# Altium schematic symbol library jlcpcb_2025_04_ferrites_extended_0402.schlib: 536 symbols (part 1 of 10)
Pins are listed as number, name and electrical type; pins without a type are passive.

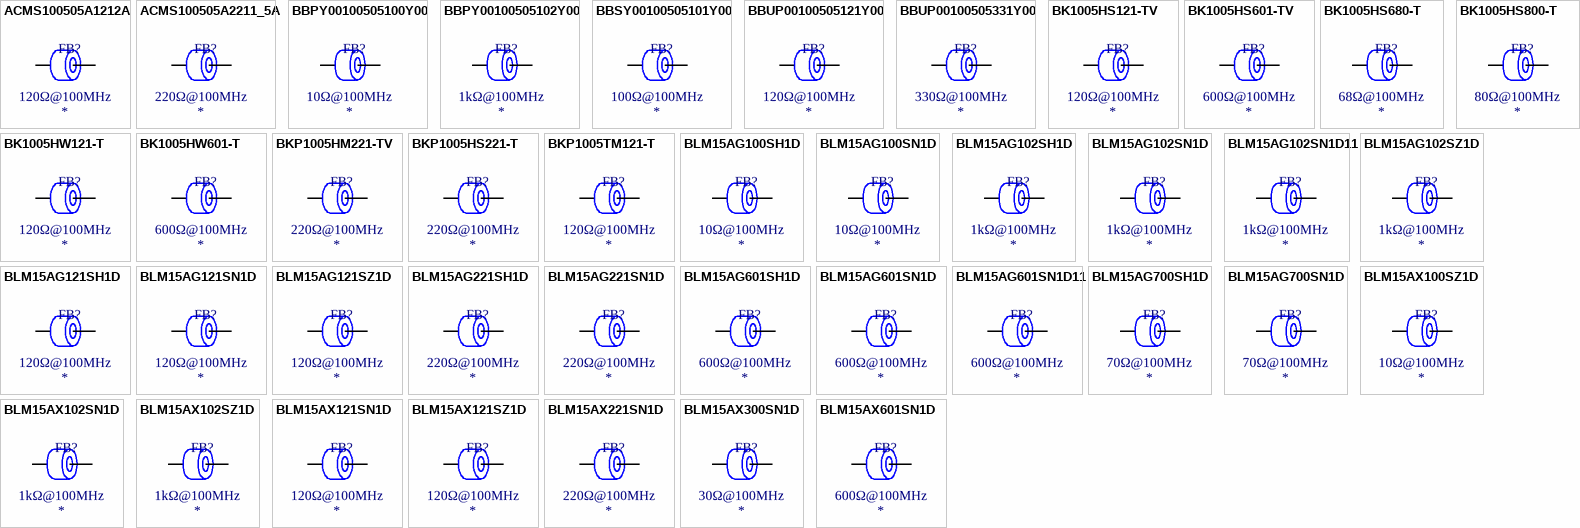
[diagram p0: symbols ACMS100505A1212A to BLM15AX601SN1D]

## ACMS100505A1212A
designator FB?  Impedance @ Frequency: 120Ω@100MHz
Ferrite, 120Ω@100MHz, ±25%, 95mΩ, 2A, SMD 0402; Manufacturer: HYHONGYEX; Manufacturer Part Number: ACMS100505A1212A; Package Size: 0402; JLCPCB Basic Part: No; JLCPCB Part Number: C963857; Supplier 1: LCSC; Category: Ferrite Beads; Supplier Part Number 1: C963857; Tolerance: ±25%; Rated Current: 2A; DC Resistance: 95mΩ; RoHS: Yes; ComponentLink1Description: Datasheet; ComponentLink1URL: https://wmsc.lcsc.com/wmsc/upload/file/pdf/v2/lcsc/2201131330_HYHONGYEX-ACMS100505A1212A_C963857.pdf; ComponentLink2Description: JLCPCB Part URL; ComponentLink2URL: https://jlcpcb.com/partdetail/C963857; ComponentLink3Description: LCSC Part URL; ComponentLink3URL: https://lcsc.com/product-detail/Ferrite-Beads_HYHONGYEX-HYHONGYEX-ACMS100505A1212A_C963857.html
footprint FB-0402 (0402 (1005M) Ferrite)
pins: 1, 2

## ACMS100505A2211_5A
designator FB?  Impedance @ Frequency: 220Ω@100MHz
Ferrite, 220Ω@100MHz, ±25%, 150mΩ, 1.5A, SMD 0402; Manufacturer: HYHONGYEX; Manufacturer Part Number: ACMS100505A2211.5A; Package Size: 0402; JLCPCB Basic Part: No; JLCPCB Part Number: C963859; Supplier 1: LCSC; Category: Ferrite Beads; Supplier Part Number 1: C963859; Tolerance: ±25%; Rated Current: 1.5A; DC Resistance: 150mΩ; RoHS: Yes; ComponentLink1Description: Datasheet; ComponentLink1URL: https://wmsc.lcsc.com/wmsc/upload/file/pdf/v2/lcsc/2012171840_HYHONGYEX-ACMS100505A2211-5A_C963859.pdf; ComponentLink2Description: JLCPCB Part URL; ComponentLink2URL: https://jlcpcb.com/partdetail/C963859; ComponentLink3Description: LCSC Part URL; ComponentLink3URL: https://lcsc.com/product-detail/Ferrite-Beads_HYHONGYEX-HYHONGYEX-ACMS100505A2211.5A_C963859.html
footprint FB-0402 (0402 (1005M) Ferrite)
pins: 1, 2

## BBPY00100505100Y00
designator FB?  Impedance @ Frequency: 10Ω@100MHz
Ferrite, 10Ω@100MHz, 30mΩ, SMD 0402; Manufacturer: Chilisin Elec; Manufacturer Part Number: BBPY00100505100Y00; Package Size: 0402; JLCPCB Basic Part: No; JLCPCB Part Number: C3716694; Supplier 1: LCSC; Category: Ferrite Beads; Supplier Part Number 1: C3716694; DC Resistance: 30mΩ; RoHS: Yes; ComponentLink1Description: Datasheet; ComponentLink1URL: https://wmsc.lcsc.com/wmsc/upload/file/pdf/v2/lcsc/2401161240_Chilisin-Elec-BBPY00100505100Y00_C3716694.pdf; ComponentLink2Description: JLCPCB Part URL; ComponentLink2URL: https://jlcpcb.com/partdetail/C3716694; ComponentLink3Description: LCSC Part URL; ComponentLink3URL: https://lcsc.com/product-detail/Ferrite-Beads_Chilisin-Elec-Chilisin-Elec-BBPY00100505100Y00_C3716694.html
pins: 1, 2

## BBPY00100505102Y00
designator FB?  Impedance @ Frequency: 1kΩ@100MHz
Ferrite, 1kΩ@100MHz, ±25%, 490mΩ, 500mA, SMD 0402; Manufacturer: Chilisin Elec; Manufacturer Part Number: BBPY00100505102Y00; Package Size: 0402; JLCPCB Basic Part: No; JLCPCB Part Number: C2935062; Supplier 1: LCSC; Category: Ferrite Beads; Supplier Part Number 1: C2935062; Tolerance: ±25%; Rated Current: 500mA; DC Resistance: 490mΩ; RoHS: Yes; ComponentLink1Description: Datasheet; ComponentLink1URL: https://wmsc.lcsc.com/wmsc/upload/file/pdf/v2/lcsc/2204181745_Chilisin-Elec-BBPY00100505102Y00_C2935062.pdf; ComponentLink2Description: JLCPCB Part URL; ComponentLink2URL: https://jlcpcb.com/partdetail/C2935062; ComponentLink3Description: LCSC Part URL; ComponentLink3URL: https://lcsc.com/product-detail/Ferrite-Beads_Chilisin-Elec-Chilisin-Elec-BBPY00100505102Y00_C2935062.html
footprint FB-0402 (0402 (1005M) Ferrite)
pins: 1, 2

## BBSY00100505101Y00
designator FB?  Impedance @ Frequency: 100Ω@100MHz
Ferrite, 100Ω@100MHz, ±25%, 250mΩ, 500mA, SMD 0402; Manufacturer: Chilisin Elec; Manufacturer Part Number: BBSY00100505101Y00; Package Size: 0402; JLCPCB Basic Part: No; JLCPCB Part Number: C910028; Supplier 1: LCSC; Category: Ferrite Beads; Supplier Part Number 1: C910028; Tolerance: ±25%; Rated Current: 500mA; DC Resistance: 250mΩ; RoHS: Yes; ComponentLink1Description: Datasheet; ComponentLink1URL: https://wmsc.lcsc.com/wmsc/upload/file/pdf/v2/lcsc/2010311706_Chilisin-Elec-BBSY00100505101Y00_C910028.pdf; ComponentLink2Description: JLCPCB Part URL; ComponentLink2URL: https://jlcpcb.com/partdetail/C910028; ComponentLink3Description: LCSC Part URL; ComponentLink3URL: https://lcsc.com/product-detail/Ferrite-Beads_Chilisin-Elec-Chilisin-Elec-BBSY00100505101Y00_C910028.html
footprint FB-0402 (0402 (1005M) Ferrite)
pins: 1, 2

## BBUP00100505121Y00
designator FB?  Impedance @ Frequency: 120Ω@100MHz
Ferrite, 120Ω@100MHz, ±25%, 55mΩ, 2A, SMD 0402; Manufacturer: Chilisin Elec; Manufacturer Part Number: BBUP00100505121Y00; Package Size: 0402; JLCPCB Basic Part: No; JLCPCB Part Number: C2981198; Supplier 1: LCSC; Category: Ferrite Beads; Supplier Part Number 1: C2981198; Tolerance: ±25%; Rated Current: 2A; DC Resistance: 55mΩ; RoHS: Yes; ComponentLink1Description: Datasheet; ComponentLink1URL: https://wmsc.lcsc.com/wmsc/upload/file/pdf/v2/lcsc/2203101903_Chilisin-Elec-BBUP00100505121Y00_C2981198.pdf; ComponentLink2Description: JLCPCB Part URL; ComponentLink2URL: https://jlcpcb.com/partdetail/C2981198; ComponentLink3Description: LCSC Part URL; ComponentLink3URL: https://lcsc.com/product-detail/Ferrite-Beads_Chilisin-Elec-Chilisin-Elec-BBUP00100505121Y00_C2981198.html
footprint FB-0402 (0402 (1005M) Ferrite)
pins: 1, 2

## BBUP00100505331Y00
designator FB?  Impedance @ Frequency: 330Ω@100MHz
Ferrite, 330Ω@100MHz, 150mΩ, SMD 0402; Manufacturer: Chilisin Elec; Manufacturer Part Number: BBUP00100505331Y00; Package Size: 0402; JLCPCB Basic Part: No; JLCPCB Part Number: C3018868; Supplier 1: LCSC; Category: Ferrite Beads; Supplier Part Number 1: C3018868; DC Resistance: 150mΩ; RoHS: Yes; ComponentLink1Description: Datasheet; ComponentLink1URL: https://wmsc.lcsc.com/wmsc/upload/file/pdf/v2/lcsc/2205261600_Chilisin-Elec-BBUP00100505331Y00_C3018868.pdf; ComponentLink2Description: JLCPCB Part URL; ComponentLink2URL: https://jlcpcb.com/partdetail/C3018868; ComponentLink3Description: LCSC Part URL; ComponentLink3URL: https://lcsc.com/product-detail/Ferrite-Beads_Chilisin-Elec-Chilisin-Elec-BBUP00100505331Y00_C3018868.html
pins: 1, 2

## BK1005HS121-TV
designator FB?  Impedance @ Frequency: 120Ω@100MHz
Ferrite, 120Ω@100MHz, ±25%, 200mΩ, 500mA, SMD 0402; Manufacturer: Taiyo Yuden; Manufacturer Part Number: BK1005HS121-TV; Package Size: 0402; JLCPCB Basic Part: No; JLCPCB Part Number: C2661625; Supplier 1: LCSC; Category: Ferrite Beads; Supplier Part Number 1: C2661625; Tolerance: ±25%; Rated Current: 500mA; DC Resistance: 200mΩ; RoHS: Yes; ComponentLink1Description: Datasheet; ComponentLink1URL: https://wmsc.lcsc.com/wmsc/upload/file/pdf/v2/lcsc/2211281900_Taiyo-Yuden-BK1005HS121-TV_C2661625.pdf; ComponentLink2Description: JLCPCB Part URL; ComponentLink2URL: https://jlcpcb.com/partdetail/C2661625; ComponentLink3Description: LCSC Part URL; ComponentLink3URL: https://lcsc.com/product-detail/Ferrite-Beads_Taiyo-Yuden-Taiyo-Yuden-BK1005HS121-TV_C2661625.html
footprint FB-0402 (0402 (1005M) Ferrite)
pins: 1, 2

## BK1005HS601-TV
designator FB?  Impedance @ Frequency: 600Ω@100MHz
Ferrite, 600Ω@100MHz, ±25%, 550mΩ, 300mA, SMD 0402; Manufacturer: Taiyo Yuden; Manufacturer Part Number: BK1005HS601-TV; Package Size: 0402; JLCPCB Basic Part: No; JLCPCB Part Number: C515358; Supplier 1: LCSC; Category: Ferrite Beads; Supplier Part Number 1: C515358; Tolerance: ±25%; Rated Current: 300mA; DC Resistance: 550mΩ; RoHS: Yes; ComponentLink1Description: Datasheet; ComponentLink1URL: https://wmsc.lcsc.com/wmsc/upload/file/pdf/v2/lcsc/2008042202_Taiyo-Yuden-BK1005HS601-TV_C515358.pdf; ComponentLink2Description: JLCPCB Part URL; ComponentLink2URL: https://jlcpcb.com/partdetail/C515358; ComponentLink3Description: LCSC Part URL; ComponentLink3URL: https://lcsc.com/product-detail/Ferrite-Beads_Taiyo-Yuden-Taiyo-Yuden-BK1005HS601-TV_C515358.html
footprint FB-0402 (0402 (1005M) Ferrite)
pins: 1, 2

## BK1005HS680-T
designator FB?  Impedance @ Frequency: 68Ω@100MHz
Ferrite, 68Ω@100MHz, ±25%, 100mΩ, 700mA, SMD 0402; Manufacturer: Taiyo Yuden; Manufacturer Part Number: BK1005HS680-T; Package Size: 0402; JLCPCB Basic Part: No; JLCPCB Part Number: C524934; Supplier 1: LCSC; Category: Ferrite Beads; Supplier Part Number 1: C524934; Tolerance: ±25%; Rated Current: 700mA; DC Resistance: 100mΩ; RoHS: Yes; ComponentLink1Description: Datasheet; ComponentLink1URL: https://wmsc.lcsc.com/wmsc/upload/file/pdf/v2/lcsc/2211282200_Taiyo-Yuden-BK1005HS680-T_C524934.pdf; ComponentLink2Description: JLCPCB Part URL; ComponentLink2URL: https://jlcpcb.com/partdetail/C524934; ComponentLink3Description: LCSC Part URL; ComponentLink3URL: https://lcsc.com/product-detail/Ferrite-Beads_Taiyo-Yuden-Taiyo-Yuden-BK1005HS680-T_C524934.html
footprint FB-0402 (0402 (1005M) Ferrite)
pins: 1, 2

## BK1005HS800-T
designator FB?  Impedance @ Frequency: 80Ω@100MHz
Ferrite, 80Ω@100MHz, ±25%, 100mΩ, 700mA, SMD 0402; Manufacturer: Taiyo Yuden; Manufacturer Part Number: BK1005HS800-T; Package Size: 0402; JLCPCB Basic Part: No; JLCPCB Part Number: C524935; Supplier 1: LCSC; Category: Ferrite Beads; Supplier Part Number 1: C524935; Tolerance: ±25%; Rated Current: 700mA; DC Resistance: 100mΩ; RoHS: Yes; ComponentLink1Description: Datasheet; ComponentLink1URL: https://wmsc.lcsc.com/wmsc/upload/file/pdf/v2/lcsc/2211282200_Taiyo-Yuden-BK1005HS800-T_C524935.pdf; ComponentLink2Description: JLCPCB Part URL; ComponentLink2URL: https://jlcpcb.com/partdetail/C524935; ComponentLink3Description: LCSC Part URL; ComponentLink3URL: https://lcsc.com/product-detail/Ferrite-Beads_Taiyo-Yuden-Taiyo-Yuden-BK1005HS800-T_C524935.html
footprint FB-0402 (0402 (1005M) Ferrite)
pins: 1, 2

## BK1005HW121-T
designator FB?  Impedance @ Frequency: 120Ω@100MHz
Ferrite, 120Ω@100MHz, ±25%, 240mΩ, 450mA, SMD 0402; Manufacturer: Taiyo Yuden; Manufacturer Part Number: BK1005HW121-T; Package Size: 0402; JLCPCB Basic Part: No; JLCPCB Part Number: C524936; Supplier 1: LCSC; Category: Ferrite Beads; Supplier Part Number 1: C524936; Tolerance: ±25%; Rated Current: 450mA; DC Resistance: 240mΩ; RoHS: Yes; ComponentLink1Description: Datasheet; ComponentLink1URL: https://wmsc.lcsc.com/wmsc/upload/file/pdf/v2/lcsc/2211282200_Taiyo-Yuden-BK1005HW121-T_C524936.pdf; ComponentLink2Description: JLCPCB Part URL; ComponentLink2URL: https://jlcpcb.com/partdetail/C524936; ComponentLink3Description: LCSC Part URL; ComponentLink3URL: https://lcsc.com/product-detail/Ferrite-Beads_Taiyo-Yuden-Taiyo-Yuden-BK1005HW121-T_C524936.html
footprint FB-0402 (0402 (1005M) Ferrite)
pins: 1, 2

## BK1005HW601-T
designator FB?  Impedance @ Frequency: 600Ω@100MHz
Ferrite, 600Ω@100MHz, ±25%, 600mΩ, 300mA, SMD 0402; Manufacturer: Taiyo Yuden; Manufacturer Part Number: BK1005HW601-T; Package Size: 0402; JLCPCB Basic Part: No; JLCPCB Part Number: C92864; Supplier 1: LCSC; Category: Ferrite Beads; Supplier Part Number 1: C92864; Tolerance: ±25%; Rated Current: 300mA; DC Resistance: 600mΩ; RoHS: Yes; ComponentLink1Description: Datasheet; ComponentLink1URL: https://wmsc.lcsc.com/wmsc/upload/file/pdf/v2/lcsc/1810171713_Taiyo-Yuden-BK1005HW601-T_C92864.pdf; ComponentLink2Description: JLCPCB Part URL; ComponentLink2URL: https://jlcpcb.com/partdetail/C92864; ComponentLink3Description: LCSC Part URL; ComponentLink3URL: https://lcsc.com/product-detail/Ferrite-Beads_Taiyo-Yuden-Taiyo-Yuden-BK1005HW601-T_C92864.html
footprint FB-0402 (0402 (1005M) Ferrite)
pins: 1, 2

## BKP1005HM221-TV
designator FB?  Impedance @ Frequency: 220Ω@100MHz
Ferrite, 220Ω@100MHz, ±25%, 180mΩ, 900mA, SMD 0402; Manufacturer: Taiyo Yuden; Manufacturer Part Number: BKP1005HM221-TV; Package Size: 0402; JLCPCB Basic Part: No; JLCPCB Part Number: C515359; Supplier 1: LCSC; Category: Ferrite Beads; Supplier Part Number 1: C515359; Tolerance: ±25%; Rated Current: 900mA; DC Resistance: 180mΩ; RoHS: Yes; ComponentLink1Description: Datasheet; ComponentLink1URL: https://wmsc.lcsc.com/wmsc/upload/file/pdf/v2/lcsc/2008042203_Taiyo-Yuden-BKP1005HM221-TV_C515359.pdf; ComponentLink2Description: JLCPCB Part URL; ComponentLink2URL: https://jlcpcb.com/partdetail/C515359; ComponentLink3Description: LCSC Part URL; ComponentLink3URL: https://lcsc.com/product-detail/Ferrite-Beads_Taiyo-Yuden-Taiyo-Yuden-BKP1005HM221-TV_C515359.html
footprint FB-0402 (0402 (1005M) Ferrite)
pins: 1, 2

## BKP1005HS221-T
designator FB?  Impedance @ Frequency: 220Ω@100MHz
Ferrite, 220Ω@100MHz, ±25%, 200mΩ, 800mA, SMD 0402; Manufacturer: Taiyo Yuden; Manufacturer Part Number: BKP1005HS221-T; Package Size: 0402; JLCPCB Basic Part: No; JLCPCB Part Number: C92877; Supplier 1: LCSC; Category: Ferrite Beads; Supplier Part Number 1: C92877; Tolerance: ±25%; Rated Current: 800mA; DC Resistance: 200mΩ; RoHS: Yes; ComponentLink1Description: Datasheet; ComponentLink1URL: https://wmsc.lcsc.com/wmsc/upload/file/pdf/v2/lcsc/1810171713_Taiyo-Yuden-BKP1005HS221-T_C92877.pdf; ComponentLink2Description: JLCPCB Part URL; ComponentLink2URL: https://jlcpcb.com/partdetail/C92877; ComponentLink3Description: LCSC Part URL; ComponentLink3URL: https://lcsc.com/product-detail/Ferrite-Beads_Taiyo-Yuden-Taiyo-Yuden-BKP1005HS221-T_C92877.html
footprint FB-0402 (0402 (1005M) Ferrite)
pins: 1, 2

## BKP1005TM121-T
designator FB?  Impedance @ Frequency: 120Ω@100MHz
Ferrite, 120Ω@100MHz, ±25%, 100mΩ, 1.3A, SMD 0402; Manufacturer: Taiyo Yuden; Manufacturer Part Number: BKP1005TM121-T; Package Size: 0402; JLCPCB Basic Part: No; JLCPCB Part Number: C524939; Supplier 1: LCSC; Category: Ferrite Beads; Supplier Part Number 1: C524939; Tolerance: ±25%; Rated Current: 1.3A; DC Resistance: 100mΩ; RoHS: Yes; ComponentLink1Description: Datasheet; ComponentLink1URL: https://wmsc.lcsc.com/wmsc/upload/file/pdf/v2/lcsc/2006241834_Taiyo-Yuden-BKP1005TM121-T_C524939.pdf; ComponentLink2Description: JLCPCB Part URL; ComponentLink2URL: https://jlcpcb.com/partdetail/C524939; ComponentLink3Description: LCSC Part URL; ComponentLink3URL: https://lcsc.com/product-detail/Ferrite-Beads_Taiyo-Yuden-Taiyo-Yuden-BKP1005TM121-T_C524939.html
footprint FB-0402 (0402 (1005M) Ferrite)
pins: 1, 2

## BLM15AG100SH1D
designator FB?  Impedance @ Frequency: 10Ω@100MHz
Ferrite, 10Ω@100MHz, 50mΩ, 1A, SMD 0402; Manufacturer: Murata Electronics; Manufacturer Part Number: BLM15AG100SH1D; Package Size: 0402; JLCPCB Basic Part: No; JLCPCB Part Number: C701272; Supplier 1: LCSC; Category: Ferrite Beads; Supplier Part Number 1: C701272; Rated Current: 1A; DC Resistance: 50mΩ; RoHS: Yes; ComponentLink1Description: Datasheet; ComponentLink1URL: https://wmsc.lcsc.com/wmsc/upload/file/pdf/v2/lcsc/2009241508_Murata-Electronics-BLM15AG100SH1D_C701272.pdf; ComponentLink2Description: JLCPCB Part URL; ComponentLink2URL: https://jlcpcb.com/partdetail/C701272; ComponentLink3Description: LCSC Part URL; ComponentLink3URL: https://lcsc.com/product-detail/Ferrite-Beads_Murata-Electronics-Murata-Electronics-BLM15AG100SH1D_C701272.html
pins: 1, 2

## BLM15AG100SN1D
designator FB?  Impedance @ Frequency: 10Ω@100MHz
Ferrite, 10Ω@100MHz, 25mΩ, 1A, SMD 0402; Manufacturer: Murata Electronics; Manufacturer Part Number: BLM15AG100SN1D; Package Size: 0402; JLCPCB Basic Part: No; JLCPCB Part Number: C76882; Supplier 1: LCSC; Category: Ferrite Beads; Supplier Part Number 1: C76882; Rated Current: 1A; DC Resistance: 25mΩ; RoHS: Yes; ComponentLink1Description: Datasheet; ComponentLink1URL: https://wmsc.lcsc.com/wmsc/upload/file/pdf/v2/lcsc/2304140030_Murata-Electronics-BLM15AG100SN1D_C76882.pdf; ComponentLink2Description: JLCPCB Part URL; ComponentLink2URL: https://jlcpcb.com/partdetail/C76882; ComponentLink3Description: LCSC Part URL; ComponentLink3URL: https://lcsc.com/product-detail/Ferrite-Beads_Murata-Electronics-Murata-Electronics-BLM15AG100SN1D_C76882.html
pins: 1, 2

## BLM15AG102SH1D
designator FB?  Impedance @ Frequency: 1kΩ@100MHz
Ferrite, 1kΩ@100MHz, ±25%, 1Ω, 200mA, SMD 0402; Manufacturer: Murata Electronics; Manufacturer Part Number: BLM15AG102SH1D; Package Size: 0402; JLCPCB Basic Part: No; JLCPCB Part Number: C160967; Supplier 1: LCSC; Category: Ferrite Beads; Supplier Part Number 1: C160967; Tolerance: ±25%; Rated Current: 200mA; DC Resistance: 1Ω; RoHS: Yes; ComponentLink1Description: Datasheet; ComponentLink1URL: https://wmsc.lcsc.com/wmsc/upload/file/pdf/v2/lcsc/1811081514_Murata-Electronics-BLM15AG102SH1D_C160967.pdf; ComponentLink2Description: JLCPCB Part URL; ComponentLink2URL: https://jlcpcb.com/partdetail/C160967; ComponentLink3Description: LCSC Part URL; ComponentLink3URL: https://lcsc.com/product-detail/Ferrite-Beads_Murata-Electronics-Murata-Electronics-BLM15AG102SH1D_C160967.html
footprint FB-0402 (0402 (1005M) Ferrite)
pins: 1, 2

## BLM15AG102SN1D
designator FB?  Impedance @ Frequency: 1kΩ@100MHz
Ferrite, 1kΩ@100MHz, ±25%, 650mΩ, 300mA, SMD 0402; Manufacturer: Murata Electronics; Manufacturer Part Number: BLM15AG102SN1D; Package Size: 0402; JLCPCB Basic Part: No; JLCPCB Part Number: C76883; Supplier 1: LCSC; Category: Ferrite Beads; Supplier Part Number 1: C76883; Tolerance: ±25%; Rated Current: 300mA; DC Resistance: 650mΩ; RoHS: Yes; ComponentLink1Description: Datasheet; ComponentLink1URL: https://wmsc.lcsc.com/wmsc/upload/file/pdf/v2/lcsc/2304140030_Murata-Electronics-BLM15AG102SN1D_C76883.pdf; ComponentLink2Description: JLCPCB Part URL; ComponentLink2URL: https://jlcpcb.com/partdetail/C76883; ComponentLink3Description: LCSC Part URL; ComponentLink3URL: https://lcsc.com/product-detail/Ferrite-Beads_Murata-Electronics-Murata-Electronics-BLM15AG102SN1D_C76883.html
footprint FB-0402 (0402 (1005M) Ferrite)
pins: 1, 2

## BLM15AG102SN1D11
designator FB?  Impedance @ Frequency: 1kΩ@100MHz
Ferrite, 1kΩ@100MHz, ±25%, 650mΩ, 300mA, SMD 0402; Manufacturer: Murata Electronics; Manufacturer Part Number: BLM15AG102SN1D11; Package Size: 0402; JLCPCB Basic Part: No; JLCPCB Part Number: C882959; Supplier 1: LCSC; Category: Ferrite Beads; Supplier Part Number 1: C882959; Tolerance: ±25%; Rated Current: 300mA; DC Resistance: 650mΩ; RoHS: Yes; ComponentLink1Description: Datasheet; ComponentLink1URL: https://wmsc.lcsc.com/wmsc/upload/file/pdf/v2/lcsc/2011231238_Murata-Electronics-BLM15AG102SN1D11_C882959.pdf; ComponentLink2Description: JLCPCB Part URL; ComponentLink2URL: https://jlcpcb.com/partdetail/C882959; ComponentLink3Description: LCSC Part URL; ComponentLink3URL: https://lcsc.com/product-detail/Ferrite-Beads_Murata-Electronics-Murata-Electronics-BLM15AG102SN1D11_C882959.html
footprint FB-0402 (0402 (1005M) Ferrite)
pins: 1, 2

## BLM15AG102SZ1D
designator FB?  Impedance @ Frequency: 1kΩ@100MHz
Ferrite, 1kΩ@100MHz, ±25%, 650mΩ, 300mA, SMD 0402; Manufacturer: Murata Electronics; Manufacturer Part Number: BLM15AG102SZ1D; Package Size: 0402; JLCPCB Basic Part: No; JLCPCB Part Number: C710326; Supplier 1: LCSC; Category: Ferrite Beads; Supplier Part Number 1: C710326; Tolerance: ±25%; Rated Current: 300mA; DC Resistance: 650mΩ; RoHS: Yes; ComponentLink1Description: Datasheet; ComponentLink1URL: https://wmsc.lcsc.com/wmsc/upload/file/pdf/v2/lcsc/2304140030_Murata-Electronics-BLM15AG102SZ1D_C710326.pdf; ComponentLink2Description: JLCPCB Part URL; ComponentLink2URL: https://jlcpcb.com/partdetail/C710326; ComponentLink3Description: LCSC Part URL; ComponentLink3URL: https://lcsc.com/product-detail/Ferrite-Beads_Murata-Electronics-Murata-Electronics-BLM15AG102SZ1D_C710326.html
footprint FB-0402 (0402 (1005M) Ferrite)
pins: 1, 2

## BLM15AG121SH1D
designator FB?  Impedance @ Frequency: 120Ω@100MHz
Ferrite, 120Ω@100MHz, ±25%, 250mΩ, 500mA, SMD 0402; Manufacturer: Murata Electronics; Manufacturer Part Number: BLM15AG121SH1D; Package Size: 0402; JLCPCB Basic Part: No; JLCPCB Part Number: C91573; Supplier 1: LCSC; Category: Ferrite Beads; Supplier Part Number 1: C91573; Tolerance: ±25%; Rated Current: 500mA; DC Resistance: 250mΩ; RoHS: Yes; ComponentLink1Description: Datasheet; ComponentLink1URL: https://wmsc.lcsc.com/wmsc/upload/file/pdf/v2/lcsc/1810232207_Murata-Electronics-BLM15AG121SH1D_C91573.pdf; ComponentLink2Description: JLCPCB Part URL; ComponentLink2URL: https://jlcpcb.com/partdetail/C91573; ComponentLink3Description: LCSC Part URL; ComponentLink3URL: https://lcsc.com/product-detail/Ferrite-Beads_Murata-Electronics-Murata-Electronics-BLM15AG121SH1D_C91573.html
footprint FB-0402 (0402 (1005M) Ferrite)
pins: 1, 2

## BLM15AG121SN1D
designator FB?  Impedance @ Frequency: 120Ω@100MHz
Ferrite, 120Ω@100MHz, ±25%, 250mΩ, 500mA, SMD 0402; Manufacturer: Murata Electronics; Manufacturer Part Number: BLM15AG121SN1D; Package Size: 0402; JLCPCB Basic Part: No; JLCPCB Part Number: C85812; Supplier 1: LCSC; Category: Ferrite Beads; Supplier Part Number 1: C85812; Tolerance: ±25%; Rated Current: 500mA; DC Resistance: 250mΩ; RoHS: Yes; ComponentLink1Description: Datasheet; ComponentLink1URL: https://wmsc.lcsc.com/wmsc/upload/file/pdf/v2/lcsc/2304140030_Murata-Electronics-BLM15AG121SN1D_C85812.pdf; ComponentLink2Description: JLCPCB Part URL; ComponentLink2URL: https://jlcpcb.com/partdetail/C85812; ComponentLink3Description: LCSC Part URL; ComponentLink3URL: https://lcsc.com/product-detail/Ferrite-Beads_Murata-Electronics-Murata-Electronics-BLM15AG121SN1D_C85812.html
footprint FB-0402 (0402 (1005M) Ferrite)
pins: 1, 2

## BLM15AG121SZ1D
designator FB?  Impedance @ Frequency: 120Ω@100MHz
Ferrite, 120Ω@100MHz, ±25%, 190mΩ, 500mA, SMD 0402; Manufacturer: Murata Electronics; Manufacturer Part Number: BLM15AG121SZ1D; Package Size: 0402; JLCPCB Basic Part: No; JLCPCB Part Number: C2661926; Supplier 1: LCSC; Category: Ferrite Beads; Supplier Part Number 1: C2661926; Tolerance: ±25%; Rated Current: 500mA; DC Resistance: 190mΩ; RoHS: Yes; ComponentLink1Description: Datasheet; ComponentLink1URL: https://wmsc.lcsc.com/wmsc/upload/file/pdf/v2/lcsc/2108070930_Murata-Electronics-BLM15AG121SZ1D_C2661926.pdf; ComponentLink2Description: JLCPCB Part URL; ComponentLink2URL: https://jlcpcb.com/partdetail/C2661926; ComponentLink3Description: LCSC Part URL; ComponentLink3URL: https://lcsc.com/product-detail/Ferrite-Beads_Murata-Electronics-Murata-Electronics-BLM15AG121SZ1D_C2661926.html
footprint FB-0402 (0402 (1005M) Ferrite)
pins: 1, 2

## BLM15AG221SH1D
designator FB?  Impedance @ Frequency: 220Ω@100MHz
Ferrite, 220Ω@100MHz, 350mΩ, SMD 0402; Manufacturer: Murata Electronics; Manufacturer Part Number: BLM15AG221SH1D; Package Size: 0402; JLCPCB Basic Part: No; JLCPCB Part Number: C269768; Supplier 1: LCSC; Category: Ferrite Beads; Supplier Part Number 1: C269768; DC Resistance: 350mΩ; RoHS: Yes; ComponentLink1Description: Datasheet; ComponentLink1URL: https://wmsc.lcsc.com/wmsc/upload/file/pdf/v2/lcsc/2207251801_Murata-Electronics-BLM15AG221SH1D_C269768.pdf; ComponentLink2Description: JLCPCB Part URL; ComponentLink2URL: https://jlcpcb.com/partdetail/C269768; ComponentLink3Description: LCSC Part URL; ComponentLink3URL: https://lcsc.com/product-detail/Ferrite-Beads_Murata-Electronics-Murata-Electronics-BLM15AG221SH1D_C269768.html
pins: 1, 2

## BLM15AG221SN1D
designator FB?  Impedance @ Frequency: 220Ω@100MHz
Ferrite, 220Ω@100MHz, ±25%, 290mΩ, 450mA, SMD 0402; Manufacturer: Murata Electronics; Manufacturer Part Number: BLM15AG221SN1D; Package Size: 0402; JLCPCB Basic Part: No; JLCPCB Part Number: C85813; Supplier 1: LCSC; Category: Ferrite Beads; Supplier Part Number 1: C85813; Tolerance: ±25%; Rated Current: 450mA; DC Resistance: 290mΩ; RoHS: Yes; ComponentLink1Description: Datasheet; ComponentLink1URL: https://wmsc.lcsc.com/wmsc/upload/file/pdf/v2/lcsc/2304140030_Murata-Electronics-BLM15AG221SN1D_C85813.pdf; ComponentLink2Description: JLCPCB Part URL; ComponentLink2URL: https://jlcpcb.com/partdetail/C85813; ComponentLink3Description: LCSC Part URL; ComponentLink3URL: https://lcsc.com/product-detail/Ferrite-Beads_Murata-Electronics-Murata-Electronics-BLM15AG221SN1D_C85813.html
footprint FB-0402 (0402 (1005M) Ferrite)
pins: 1, 2

## BLM15AG601SH1D
designator FB?  Impedance @ Frequency: 600Ω@100MHz
Ferrite, 600Ω@100MHz, ±25%, 600mΩ, 300mA, SMD 0402; Manufacturer: Murata Electronics; Manufacturer Part Number: BLM15AG601SH1D; Package Size: 0402; JLCPCB Basic Part: No; JLCPCB Part Number: C525480; Supplier 1: LCSC; Category: Ferrite Beads; Supplier Part Number 1: C525480; Tolerance: ±25%; Rated Current: 300mA; DC Resistance: 600mΩ; RoHS: Yes; ComponentLink1Description: Datasheet; ComponentLink1URL: https://wmsc.lcsc.com/wmsc/upload/file/pdf/v2/lcsc/2304140030_Murata-Electronics-BLM15AG601SH1D_C525480.pdf; ComponentLink2Description: JLCPCB Part URL; ComponentLink2URL: https://jlcpcb.com/partdetail/C525480; ComponentLink3Description: LCSC Part URL; ComponentLink3URL: https://lcsc.com/product-detail/Ferrite-Beads_Murata-Electronics-Murata-Electronics-BLM15AG601SH1D_C525480.html
footprint FB-0402 (0402 (1005M) Ferrite)
pins: 1, 2

## BLM15AG601SN1D
designator FB?  Impedance @ Frequency: 600Ω@100MHz
Ferrite, 600Ω@100MHz, ±25%, 520mΩ, 300mA, SMD 0402; Manufacturer: Murata Electronics; Manufacturer Part Number: BLM15AG601SN1D; Package Size: 0402; JLCPCB Basic Part: No; JLCPCB Part Number: C76884; Supplier 1: LCSC; Category: Ferrite Beads; Supplier Part Number 1: C76884; Tolerance: ±25%; Rated Current: 300mA; DC Resistance: 520mΩ; RoHS: Yes; ComponentLink1Description: Datasheet; ComponentLink1URL: https://wmsc.lcsc.com/wmsc/upload/file/pdf/v2/lcsc/2304140030_Murata-Electronics-BLM15AG601SN1D_C76884.pdf; ComponentLink2Description: JLCPCB Part URL; ComponentLink2URL: https://jlcpcb.com/partdetail/C76884; ComponentLink3Description: LCSC Part URL; ComponentLink3URL: https://lcsc.com/product-detail/Ferrite-Beads_Murata-Electronics-Murata-Electronics-BLM15AG601SN1D_C76884.html
footprint FB-0402 (0402 (1005M) Ferrite)
pins: 1, 2

## BLM15AG601SN1D11
designator FB?  Impedance @ Frequency: 600Ω@100MHz
Ferrite, 600Ω@100MHz, ±25%, 520mΩ, 300mA, SMD 0402; Manufacturer: Murata Electronics; Manufacturer Part Number: BLM15AG601SN1D11; Package Size: 0402; JLCPCB Basic Part: No; JLCPCB Part Number: C560060; Supplier 1: LCSC; Category: Ferrite Beads; Supplier Part Number 1: C560060; Tolerance: ±25%; Rated Current: 300mA; DC Resistance: 520mΩ; RoHS: Yes; ComponentLink1Description: Datasheet; ComponentLink1URL: https://wmsc.lcsc.com/wmsc/upload/file/pdf/v2/lcsc/2009211907_Murata-Electronics-BLM15AG601SN1D11_C560060.pdf; ComponentLink2Description: JLCPCB Part URL; ComponentLink2URL: https://jlcpcb.com/partdetail/C560060; ComponentLink3Description: LCSC Part URL; ComponentLink3URL: https://lcsc.com/product-detail/Ferrite-Beads_Murata-Electronics-Murata-Electronics-BLM15AG601SN1D11_C560060.html
footprint FB-0402 (0402 (1005M) Ferrite)
pins: 1, 2

## BLM15AG700SH1D
designator FB?  Impedance @ Frequency: 70Ω@100MHz
Ferrite, 70Ω@100MHz, ±25%, 150mΩ, 500mA, SMD 0402; Manufacturer: Murata Electronics; Manufacturer Part Number: BLM15AG700SH1D; Package Size: 0402; JLCPCB Basic Part: No; JLCPCB Part Number: C527985; Supplier 1: LCSC; Category: Ferrite Beads; Supplier Part Number 1: C527985; Tolerance: ±25%; Rated Current: 500mA; DC Resistance: 150mΩ; RoHS: Yes; ComponentLink1Description: Datasheet; ComponentLink1URL: https://wmsc.lcsc.com/wmsc/upload/file/pdf/v2/lcsc/2304140030_Murata-Electronics-BLM15AG700SH1D_C527985.pdf; ComponentLink2Description: JLCPCB Part URL; ComponentLink2URL: https://jlcpcb.com/partdetail/C527985; ComponentLink3Description: LCSC Part URL; ComponentLink3URL: https://lcsc.com/product-detail/Ferrite-Beads_Murata-Electronics-Murata-Electronics-BLM15AG700SH1D_C527985.html
footprint FB-0402 (0402 (1005M) Ferrite)
pins: 1, 2

## BLM15AG700SN1D
designator FB?  Impedance @ Frequency: 70Ω@100MHz
Ferrite, 70Ω@100MHz, ±25%, 150mΩ, 600mA, SMD 0402; Manufacturer: Murata Electronics; Manufacturer Part Number: BLM15AG700SN1D; Package Size: 0402; JLCPCB Basic Part: No; JLCPCB Part Number: C85814; Supplier 1: LCSC; Category: Ferrite Beads; Supplier Part Number 1: C85814; Tolerance: ±25%; Rated Current: 600mA; DC Resistance: 150mΩ; RoHS: Yes; ComponentLink1Description: Datasheet; ComponentLink1URL: https://wmsc.lcsc.com/wmsc/upload/file/pdf/v2/lcsc/2304140030_Murata-Electronics-BLM15AG700SN1D_C85814.pdf; ComponentLink2Description: JLCPCB Part URL; ComponentLink2URL: https://jlcpcb.com/partdetail/C85814; ComponentLink3Description: LCSC Part URL; ComponentLink3URL: https://lcsc.com/product-detail/Ferrite-Beads_Murata-Electronics-Murata-Electronics-BLM15AG700SN1D_C85814.html
footprint FB-0402 (0402 (1005M) Ferrite)
pins: 1, 2

## BLM15AX100SZ1D
designator FB?  Impedance @ Frequency: 10Ω@100MHz
Ferrite, 10Ω@100MHz, ±25%, 15mΩ, 1.74A, SMD 0402; Manufacturer: Murata Electronics; Manufacturer Part Number: BLM15AX100SZ1D; Package Size: 0402; JLCPCB Basic Part: No; JLCPCB Part Number: C2661896; Supplier 1: LCSC; Category: Ferrite Beads; Supplier Part Number 1: C2661896; Tolerance: ±25%; Rated Current: 1.74A; DC Resistance: 15mΩ; RoHS: Yes; ComponentLink1Description: Datasheet; ComponentLink1URL: https://wmsc.lcsc.com/wmsc/upload/file/pdf/v2/lcsc/2304140030_Murata-Electronics-BLM15AX100SZ1D_C2661896.pdf; ComponentLink2Description: JLCPCB Part URL; ComponentLink2URL: https://jlcpcb.com/partdetail/C2661896; ComponentLink3Description: LCSC Part URL; ComponentLink3URL: https://lcsc.com/product-detail/Ferrite-Beads_Murata-Electronics-Murata-Electronics-BLM15AX100SZ1D_C2661896.html
footprint FB-0402 (0402 (1005M) Ferrite)
pins: 1, 2

## BLM15AX102SN1D
designator FB?  Impedance @ Frequency: 1kΩ@100MHz
Ferrite, 1kΩ@100MHz, ±25%, 490mΩ, 350mA, SMD 0402; Manufacturer: Murata Electronics; Manufacturer Part Number: BLM15AX102SN1D; Package Size: 0402; JLCPCB Basic Part: No; JLCPCB Part Number: C85815; Supplier 1: LCSC; Category: Ferrite Beads; Supplier Part Number 1: C85815; Tolerance: ±25%; Rated Current: 350mA; DC Resistance: 490mΩ; RoHS: Yes; ComponentLink1Description: Datasheet; ComponentLink1URL: https://wmsc.lcsc.com/wmsc/upload/file/pdf/v2/lcsc/2304140030_Murata-Electronics-BLM15AX102SN1D_C85815.pdf; ComponentLink2Description: JLCPCB Part URL; ComponentLink2URL: https://jlcpcb.com/partdetail/C85815; ComponentLink3Description: LCSC Part URL; ComponentLink3URL: https://lcsc.com/product-detail/Ferrite-Beads_Murata-Electronics-Murata-Electronics-BLM15AX102SN1D_C85815.html
footprint FB-0402 (0402 (1005M) Ferrite)
pins: 1, 2

## BLM15AX102SZ1D
designator FB?  Impedance @ Frequency: 1kΩ@100MHz
Ferrite, 1kΩ@100MHz, ±25%, 490mΩ, 350mA, SMD 0402; Manufacturer: Murata Electronics; Manufacturer Part Number: BLM15AX102SZ1D; Package Size: 0402; JLCPCB Basic Part: No; JLCPCB Part Number: C710329; Supplier 1: LCSC; Category: Ferrite Beads; Supplier Part Number 1: C710329; Tolerance: ±25%; Rated Current: 350mA; DC Resistance: 490mΩ; RoHS: Yes; ComponentLink1Description: Datasheet; ComponentLink1URL: https://wmsc.lcsc.com/wmsc/upload/file/pdf/v2/lcsc/2304140030_Murata-Electronics-BLM15AX102SZ1D_C710329.pdf; ComponentLink2Description: JLCPCB Part URL; ComponentLink2URL: https://jlcpcb.com/partdetail/C710329; ComponentLink3Description: LCSC Part URL; ComponentLink3URL: https://lcsc.com/product-detail/Ferrite-Beads_Murata-Electronics-Murata-Electronics-BLM15AX102SZ1D_C710329.html
footprint FB-0402 (0402 (1005M) Ferrite)
pins: 1, 2

## BLM15AX121SN1D
designator FB?  Impedance @ Frequency: 120Ω@100MHz
Ferrite, 120Ω@100MHz, ±25%, 130mΩ, 700mA, SMD 0402; Manufacturer: Murata Electronics; Manufacturer Part Number: BLM15AX121SN1D; Package Size: 0402; JLCPCB Basic Part: No; JLCPCB Part Number: C337873; Supplier 1: LCSC; Category: Ferrite Beads; Supplier Part Number 1: C337873; Tolerance: ±25%; Rated Current: 700mA; DC Resistance: 130mΩ; RoHS: Yes; ComponentLink1Description: Datasheet; ComponentLink1URL: https://wmsc.lcsc.com/wmsc/upload/file/pdf/v2/lcsc/2304140030_Murata-Electronics-BLM15AX121SN1D_C337873.pdf; ComponentLink2Description: JLCPCB Part URL; ComponentLink2URL: https://jlcpcb.com/partdetail/C337873; ComponentLink3Description: LCSC Part URL; ComponentLink3URL: https://lcsc.com/product-detail/Ferrite-Beads_Murata-Electronics-Murata-Electronics-BLM15AX121SN1D_C337873.html
footprint FB-0402 (0402 (1005M) Ferrite)
pins: 1, 2

## BLM15AX121SZ1D
designator FB?  Impedance @ Frequency: 120Ω@100MHz
Ferrite, 120Ω@100MHz, ±25%, 130mΩ, 700mA, SMD 0402; Manufacturer: Murata Electronics; Manufacturer Part Number: BLM15AX121SZ1D; Package Size: 0402; JLCPCB Basic Part: No; JLCPCB Part Number: C2661657; Supplier 1: LCSC; Category: Ferrite Beads; Supplier Part Number 1: C2661657; Tolerance: ±25%; Rated Current: 700mA; DC Resistance: 130mΩ; RoHS: Yes; ComponentLink1Description: Datasheet; ComponentLink1URL: https://wmsc.lcsc.com/wmsc/upload/file/pdf/v2/lcsc/2304140030_Murata-Electronics-BLM15AX121SZ1D_C2661657.pdf; ComponentLink2Description: JLCPCB Part URL; ComponentLink2URL: https://jlcpcb.com/partdetail/C2661657; ComponentLink3Description: LCSC Part URL; ComponentLink3URL: https://lcsc.com/product-detail/Ferrite-Beads_Murata-Electronics-Murata-Electronics-BLM15AX121SZ1D_C2661657.html
footprint FB-0402 (0402 (1005M) Ferrite)
pins: 1, 2

## BLM15AX221SN1D
designator FB?  Impedance @ Frequency: 220Ω@100MHz
Ferrite, 220Ω@100MHz, ±25%, 180mΩ, 600mA, SMD 0402; Manufacturer: Murata Electronics; Manufacturer Part Number: BLM15AX221SN1D; Package Size: 0402; JLCPCB Basic Part: No; JLCPCB Part Number: C76885; Supplier 1: LCSC; Category: Ferrite Beads; Supplier Part Number 1: C76885; Tolerance: ±25%; Rated Current: 600mA; DC Resistance: 180mΩ; RoHS: Yes; ComponentLink1Description: Datasheet; ComponentLink1URL: https://wmsc.lcsc.com/wmsc/upload/file/pdf/v2/lcsc/2304140030_Murata-Electronics-BLM15AX221SN1D_C76885.pdf; ComponentLink2Description: JLCPCB Part URL; ComponentLink2URL: https://jlcpcb.com/partdetail/C76885; ComponentLink3Description: LCSC Part URL; ComponentLink3URL: https://lcsc.com/product-detail/Ferrite-Beads_Murata-Electronics-Murata-Electronics-BLM15AX221SN1D_C76885.html
footprint FB-0402 (0402 (1005M) Ferrite)
pins: 1, 2

## BLM15AX300SN1D
designator FB?  Impedance @ Frequency: 30Ω@100MHz
Ferrite, 30Ω@100MHz, ±25%, 60mΩ, 1.1A, SMD 0402; Manufacturer: Murata Electronics; Manufacturer Part Number: BLM15AX300SN1D; Package Size: 0402; JLCPCB Basic Part: No; JLCPCB Part Number: C71813; Supplier 1: LCSC; Category: Ferrite Beads; Supplier Part Number 1: C71813; Tolerance: ±25%; Rated Current: 1.1A; DC Resistance: 60mΩ; RoHS: Yes; ComponentLink1Description: Datasheet; ComponentLink1URL: https://wmsc.lcsc.com/wmsc/upload/file/pdf/v2/lcsc/2304140030_Murata-Electronics-BLM15AX300SN1D_C71813.pdf; ComponentLink2Description: JLCPCB Part URL; ComponentLink2URL: https://jlcpcb.com/partdetail/C71813; ComponentLink3Description: LCSC Part URL; ComponentLink3URL: https://lcsc.com/product-detail/Ferrite-Beads_Murata-Electronics-Murata-Electronics-BLM15AX300SN1D_C71813.html
footprint FB-0402 (0402 (1005M) Ferrite)
pins: 1, 2

## BLM15AX601SN1D
designator FB?  Impedance @ Frequency: 600Ω@100MHz
Ferrite, 600Ω@100MHz, ±25%, 340mΩ, 500mA, SMD 0402; Manufacturer: Murata Electronics; Manufacturer Part Number: BLM15AX601SN1D; Package Size: 0402; JLCPCB Basic Part: No; JLCPCB Part Number: C76886; Supplier 1: LCSC; Category: Ferrite Beads; Supplier Part Number 1: C76886; Tolerance: ±25%; Rated Current: 500mA; DC Resistance: 340mΩ; RoHS: Yes; ComponentLink1Description: Datasheet; ComponentLink1URL: https://wmsc.lcsc.com/wmsc/upload/file/pdf/v2/lcsc/2304140030_Murata-Electronics-BLM15AX601SN1D_C76886.pdf; ComponentLink2Description: JLCPCB Part URL; ComponentLink2URL: https://jlcpcb.com/partdetail/C76886; ComponentLink3Description: LCSC Part URL; ComponentLink3URL: https://lcsc.com/product-detail/Ferrite-Beads_Murata-Electronics-Murata-Electronics-BLM15AX601SN1D_C76886.html
footprint FB-0402 (0402 (1005M) Ferrite)
pins: 1, 2

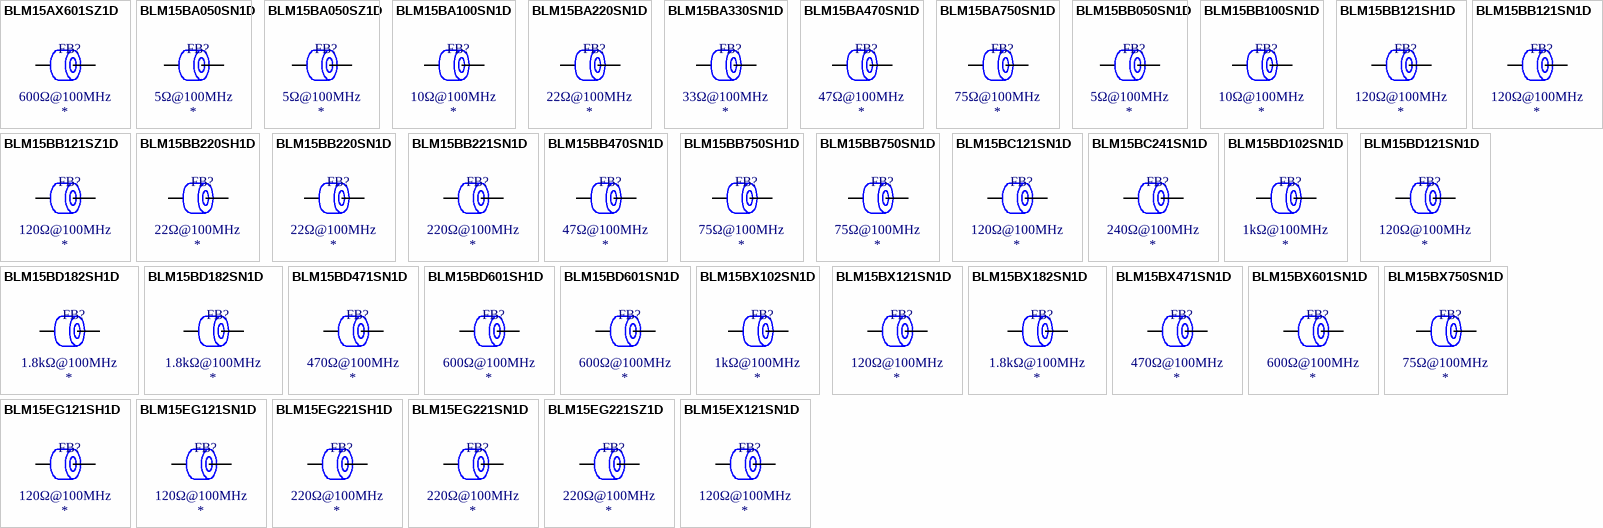
[diagram p1: symbols BLM15AX601SZ1D to BLM15EX121SN1D]

## BLM15AX601SZ1D
designator FB?  Impedance @ Frequency: 600Ω@100MHz
Ferrite, 600Ω@100MHz, ±25%, 340mΩ, 500mA, SMD 0402; Manufacturer: Murata Electronics; Manufacturer Part Number: BLM15AX601SZ1D; Package Size: 0402; JLCPCB Basic Part: No; JLCPCB Part Number: C710330; Supplier 1: LCSC; Category: Ferrite Beads; Supplier Part Number 1: C710330; Tolerance: ±25%; Rated Current: 500mA; DC Resistance: 340mΩ; RoHS: Yes; ComponentLink1Description: Datasheet; ComponentLink1URL: https://wmsc.lcsc.com/wmsc/upload/file/pdf/v2/lcsc/2304140030_Murata-Electronics-BLM15AX601SZ1D_C710330.pdf; ComponentLink2Description: JLCPCB Part URL; ComponentLink2URL: https://jlcpcb.com/partdetail/C710330; ComponentLink3Description: LCSC Part URL; ComponentLink3URL: https://lcsc.com/product-detail/Ferrite-Beads_Murata-Electronics-Murata-Electronics-BLM15AX601SZ1D_C710330.html
footprint FB-0402 (0402 (1005M) Ferrite)
pins: 1, 2

## BLM15BA050SN1D
designator FB?  Impedance @ Frequency: 5Ω@100MHz
Ferrite, 5Ω@100MHz, ±25%, 300mΩ, 100mA, SMD 0402; Manufacturer: Murata Electronics; Manufacturer Part Number: BLM15BA050SN1D; Package Size: 0402; JLCPCB Basic Part: No; JLCPCB Part Number: C160969; Supplier 1: LCSC; Category: Ferrite Beads; Supplier Part Number 1: C160969; Tolerance: ±25%; Rated Current: 100mA; DC Resistance: 300mΩ; RoHS: Yes; ComponentLink1Description: Datasheet; ComponentLink1URL: https://wmsc.lcsc.com/wmsc/upload/file/pdf/v2/lcsc/1811081533_Murata-Electronics-BLM15BA050SN1D_C160969.pdf; ComponentLink2Description: JLCPCB Part URL; ComponentLink2URL: https://jlcpcb.com/partdetail/C160969; ComponentLink3Description: LCSC Part URL; ComponentLink3URL: https://lcsc.com/product-detail/Ferrite-Beads_Murata-Electronics-Murata-Electronics-BLM15BA050SN1D_C160969.html
footprint FB-0402 (0402 (1005M) Ferrite)
pins: 1, 2

## BLM15BA050SZ1D
designator FB?  Impedance @ Frequency: 5Ω@100MHz
Ferrite, 5Ω@100MHz, ±25%, 150mΩ, 300mA, SMD 0402; Manufacturer: Murata Electronics; Manufacturer Part Number: BLM15BA050SZ1D; Package Size: 0402; JLCPCB Basic Part: No; JLCPCB Part Number: C2941921; Supplier 1: LCSC; Category: Ferrite Beads; Supplier Part Number 1: C2941921; Tolerance: ±25%; Rated Current: 300mA; DC Resistance: 150mΩ; RoHS: Yes; ComponentLink1Description: Datasheet; ComponentLink1URL: https://wmsc.lcsc.com/wmsc/upload/file/pdf/v2/lcsc/2201131730_Murata-Electronics-BLM15BA050SZ1D_C2941921.pdf; ComponentLink2Description: JLCPCB Part URL; ComponentLink2URL: https://jlcpcb.com/partdetail/C2941921; ComponentLink3Description: LCSC Part URL; ComponentLink3URL: https://lcsc.com/product-detail/Ferrite-Beads_Murata-Electronics-Murata-Electronics-BLM15BA050SZ1D_C2941921.html
footprint FB-0402 (0402 (1005M) Ferrite)
pins: 1, 2

## BLM15BA100SN1D
designator FB?  Impedance @ Frequency: 10Ω@100MHz
Ferrite, 10Ω@100MHz, ±25%, 200mΩ, 300mA, SMD 0402; Manufacturer: Murata Electronics; Manufacturer Part Number: BLM15BA100SN1D; Package Size: 0402; JLCPCB Basic Part: No; JLCPCB Part Number: C113007; Supplier 1: LCSC; Category: Ferrite Beads; Supplier Part Number 1: C113007; Tolerance: ±25%; Rated Current: 300mA; DC Resistance: 200mΩ; RoHS: Yes; ComponentLink1Description: Datasheet; ComponentLink1URL: https://wmsc.lcsc.com/wmsc/upload/file/pdf/v2/lcsc/2304140030_Murata-Electronics-BLM15BA100SN1D_C113007.pdf; ComponentLink2Description: JLCPCB Part URL; ComponentLink2URL: https://jlcpcb.com/partdetail/C113007; ComponentLink3Description: LCSC Part URL; ComponentLink3URL: https://lcsc.com/product-detail/Ferrite-Beads_Murata-Electronics-Murata-Electronics-BLM15BA100SN1D_C113007.html
footprint FB-0402 (0402 (1005M) Ferrite)
pins: 1, 2

## BLM15BA220SN1D
designator FB?  Impedance @ Frequency: 22Ω@100MHz
Ferrite, 22Ω@100MHz, ±25%, 300mΩ, 300mA, SMD 0402; Manufacturer: Murata Electronics; Manufacturer Part Number: BLM15BA220SN1D; Package Size: 0402; JLCPCB Basic Part: No; JLCPCB Part Number: C85816; Supplier 1: LCSC; Category: Ferrite Beads; Supplier Part Number 1: C85816; Tolerance: ±25%; Rated Current: 300mA; DC Resistance: 300mΩ; RoHS: Yes; ComponentLink1Description: Datasheet; ComponentLink1URL: https://wmsc.lcsc.com/wmsc/upload/file/pdf/v2/lcsc/2304140030_Murata-Electronics-BLM15BA220SN1D_C85816.pdf; ComponentLink2Description: JLCPCB Part URL; ComponentLink2URL: https://jlcpcb.com/partdetail/C85816; ComponentLink3Description: LCSC Part URL; ComponentLink3URL: https://lcsc.com/product-detail/Ferrite-Beads_Murata-Electronics-Murata-Electronics-BLM15BA220SN1D_C85816.html
footprint FB-0402 (0402 (1005M) Ferrite)
pins: 1, 2

## BLM15BA330SN1D
designator FB?  Impedance @ Frequency: 33Ω@100MHz
Ferrite, 33Ω@100MHz, ±25%, 400mΩ, 300mA, SMD 0402; Manufacturer: Murata Electronics; Manufacturer Part Number: BLM15BA330SN1D; Package Size: 0402; JLCPCB Basic Part: No; JLCPCB Part Number: C88961; Supplier 1: LCSC; Category: Ferrite Beads; Supplier Part Number 1: C88961; Tolerance: ±25%; Rated Current: 300mA; DC Resistance: 400mΩ; RoHS: Yes; ComponentLink1Description: Datasheet; ComponentLink1URL: https://wmsc.lcsc.com/wmsc/upload/file/pdf/v2/lcsc/2304140030_Murata-Electronics-BLM15BA330SN1D_C88961.pdf; ComponentLink2Description: JLCPCB Part URL; ComponentLink2URL: https://jlcpcb.com/partdetail/C88961; ComponentLink3Description: LCSC Part URL; ComponentLink3URL: https://lcsc.com/product-detail/Ferrite-Beads_Murata-Electronics-Murata-Electronics-BLM15BA330SN1D_C88961.html
footprint FB-0402 (0402 (1005M) Ferrite)
pins: 1, 2

## BLM15BA470SN1D
designator FB?  Impedance @ Frequency: 47Ω@100MHz
Ferrite, 47Ω@100MHz, ±25%, 600mΩ, 200mA, SMD 0402; Manufacturer: Murata Electronics; Manufacturer Part Number: BLM15BA470SN1D; Package Size: 0402; JLCPCB Basic Part: No; JLCPCB Part Number: C397297; Supplier 1: LCSC; Category: Ferrite Beads; Supplier Part Number 1: C397297; Tolerance: ±25%; Rated Current: 200mA; DC Resistance: 600mΩ; RoHS: Yes; ComponentLink1Description: Datasheet; ComponentLink1URL: https://wmsc.lcsc.com/wmsc/upload/file/pdf/v2/lcsc/2304140030_Murata-Electronics-BLM15BA470SN1D_C397297.pdf; ComponentLink2Description: JLCPCB Part URL; ComponentLink2URL: https://jlcpcb.com/partdetail/C397297; ComponentLink3Description: LCSC Part URL; ComponentLink3URL: https://lcsc.com/product-detail/Ferrite-Beads_Murata-Electronics-Murata-Electronics-BLM15BA470SN1D_C397297.html
footprint FB-0402 (0402 (1005M) Ferrite)
pins: 1, 2

## BLM15BA750SN1D
designator FB?  Impedance @ Frequency: 75Ω@100MHz
Ferrite, 75Ω@100MHz, ±25%, 800mΩ, 200mA, SMD 0402; Manufacturer: Murata Electronics; Manufacturer Part Number: BLM15BA750SN1D; Package Size: 0402; JLCPCB Basic Part: No; JLCPCB Part Number: C701308; Supplier 1: LCSC; Category: Ferrite Beads; Supplier Part Number 1: C701308; Tolerance: ±25%; Rated Current: 200mA; DC Resistance: 800mΩ; RoHS: Yes; ComponentLink1Description: Datasheet; ComponentLink1URL: https://wmsc.lcsc.com/wmsc/upload/file/pdf/v2/lcsc/2009291136_Murata-Electronics-BLM15BA750SN1D_C701308.pdf; ComponentLink2Description: JLCPCB Part URL; ComponentLink2URL: https://jlcpcb.com/partdetail/C701308; ComponentLink3Description: LCSC Part URL; ComponentLink3URL: https://lcsc.com/product-detail/Ferrite-Beads_Murata-Electronics-Murata-Electronics-BLM15BA750SN1D_C701308.html
footprint FB-0402 (0402 (1005M) Ferrite)
pins: 1, 2

## BLM15BB050SN1D
designator FB?  Impedance @ Frequency: 5Ω@100MHz
Ferrite, 5Ω@100MHz, 80mΩ, SMD 0402; Manufacturer: Murata Electronics; Manufacturer Part Number: BLM15BB050SN1D; Package Size: 0402; JLCPCB Basic Part: No; JLCPCB Part Number: C701307; Supplier 1: LCSC; Category: Ferrite Beads; Supplier Part Number 1: C701307; DC Resistance: 80mΩ; RoHS: Yes; ComponentLink1Description: Datasheet; ComponentLink1URL: https://wmsc.lcsc.com/wmsc/upload/file/pdf/v2/lcsc/2304140030_Murata-Electronics-BLM15BB050SN1D_C701307.pdf; ComponentLink2Description: JLCPCB Part URL; ComponentLink2URL: https://jlcpcb.com/partdetail/C701307; ComponentLink3Description: LCSC Part URL; ComponentLink3URL: https://lcsc.com/product-detail/Ferrite-Beads_Murata-Electronics-Murata-Electronics-BLM15BB050SN1D_C701307.html
pins: 1, 2

## BLM15BB100SN1D
designator FB?  Impedance @ Frequency: 10Ω@100MHz
Ferrite, 10Ω@100MHz, ±25%, 100mΩ, 300mA, SMD 0402; Manufacturer: Murata Electronics; Manufacturer Part Number: BLM15BB100SN1D; Package Size: 0402; JLCPCB Basic Part: No; JLCPCB Part Number: C113008; Supplier 1: LCSC; Category: Ferrite Beads; Supplier Part Number 1: C113008; Tolerance: ±25%; Rated Current: 300mA; DC Resistance: 100mΩ; RoHS: Yes; ComponentLink1Description: Datasheet; ComponentLink1URL: https://wmsc.lcsc.com/wmsc/upload/file/pdf/v2/lcsc/1811081517_Murata-Electronics-BLM15BB100SN1D_C113008.pdf; ComponentLink2Description: JLCPCB Part URL; ComponentLink2URL: https://jlcpcb.com/partdetail/C113008; ComponentLink3Description: LCSC Part URL; ComponentLink3URL: https://lcsc.com/product-detail/Ferrite-Beads_Murata-Electronics-Murata-Electronics-BLM15BB100SN1D_C113008.html
footprint FB-0402 (0402 (1005M) Ferrite)
pins: 1, 2

## BLM15BB121SH1D
designator FB?  Impedance @ Frequency: 120Ω@100MHz
Ferrite, 120Ω@100MHz, ±25%, 550mΩ, 300mA, SMD 0402; Manufacturer: Murata Electronics; Manufacturer Part Number: BLM15BB121SH1D; Package Size: 0402; JLCPCB Basic Part: No; JLCPCB Part Number: C882963; Supplier 1: LCSC; Category: Ferrite Beads; Supplier Part Number 1: C882963; Tolerance: ±25%; Rated Current: 300mA; DC Resistance: 550mΩ; RoHS: Yes; ComponentLink1Description: Datasheet; ComponentLink1URL: https://wmsc.lcsc.com/wmsc/upload/file/pdf/v2/lcsc/2201242130_Murata-Electronics-BLM15BB121SH1D_C882963.pdf; ComponentLink2Description: JLCPCB Part URL; ComponentLink2URL: https://jlcpcb.com/partdetail/C882963; ComponentLink3Description: LCSC Part URL; ComponentLink3URL: https://lcsc.com/product-detail/Ferrite-Beads_Murata-Electronics-Murata-Electronics-BLM15BB121SH1D_C882963.html
footprint FB-0402 (0402 (1005M) Ferrite)
pins: 1, 2

## BLM15BB121SN1D
designator FB?  Impedance @ Frequency: 120Ω@100MHz
Ferrite, 120Ω@100MHz, ±25%, 550mΩ, 300mA, SMD 0402; Manufacturer: Murata Electronics; Manufacturer Part Number: BLM15BB121SN1D; Package Size: 0402; JLCPCB Basic Part: No; JLCPCB Part Number: C85817; Supplier 1: LCSC; Category: Ferrite Beads; Supplier Part Number 1: C85817; Tolerance: ±25%; Rated Current: 300mA; DC Resistance: 550mΩ; RoHS: Yes; ComponentLink1Description: Datasheet; ComponentLink1URL: https://wmsc.lcsc.com/wmsc/upload/file/pdf/v2/lcsc/2304140030_Murata-Electronics-BLM15BB121SN1D_C85817.pdf; ComponentLink2Description: JLCPCB Part URL; ComponentLink2URL: https://jlcpcb.com/partdetail/C85817; ComponentLink3Description: LCSC Part URL; ComponentLink3URL: https://lcsc.com/product-detail/Ferrite-Beads_Murata-Electronics-Murata-Electronics-BLM15BB121SN1D_C85817.html
footprint FB-0402 (0402 (1005M) Ferrite)
pins: 1, 2

## BLM15BB121SZ1D
designator FB?  Impedance @ Frequency: 120Ω@100MHz
Ferrite, 120Ω@100MHz, ±25%, 550mΩ, 300mA, SMD 0402; Manufacturer: Murata Electronics; Manufacturer Part Number: BLM15BB121SZ1D; Package Size: 0402; JLCPCB Basic Part: No; JLCPCB Part Number: C882969; Supplier 1: LCSC; Category: Ferrite Beads; Supplier Part Number 1: C882969; Tolerance: ±25%; Rated Current: 300mA; DC Resistance: 550mΩ; RoHS: Yes; ComponentLink1Description: Datasheet; ComponentLink1URL: https://wmsc.lcsc.com/wmsc/upload/file/pdf/v2/lcsc/2201242130_Murata-Electronics-BLM15BB121SZ1D_C882969.pdf; ComponentLink2Description: JLCPCB Part URL; ComponentLink2URL: https://jlcpcb.com/partdetail/C882969; ComponentLink3Description: LCSC Part URL; ComponentLink3URL: https://lcsc.com/product-detail/Ferrite-Beads_Murata-Electronics-Murata-Electronics-BLM15BB121SZ1D_C882969.html
footprint FB-0402 (0402 (1005M) Ferrite)
pins: 1, 2

## BLM15BB220SH1D
designator FB?  Impedance @ Frequency: 22Ω@100MHz
Ferrite, 22Ω@100MHz, ±25%, 200mΩ, 300mA, SMD 0402; Manufacturer: Murata Electronics; Manufacturer Part Number: BLM15BB220SH1D; Package Size: 0402; JLCPCB Basic Part: No; JLCPCB Part Number: C907947; Supplier 1: LCSC; Category: Ferrite Beads; Supplier Part Number 1: C907947; Tolerance: ±25%; Rated Current: 300mA; DC Resistance: 200mΩ; RoHS: Yes; ComponentLink1Description: Datasheet; ComponentLink1URL: https://wmsc.lcsc.com/wmsc/upload/file/pdf/v2/lcsc/2304140030_Murata-Electronics-BLM15BB220SH1D_C907947.pdf; ComponentLink2Description: JLCPCB Part URL; ComponentLink2URL: https://jlcpcb.com/partdetail/C907947; ComponentLink3Description: LCSC Part URL; ComponentLink3URL: https://lcsc.com/product-detail/Ferrite-Beads_Murata-Electronics-Murata-Electronics-BLM15BB220SH1D_C907947.html
footprint FB-0402 (0402 (1005M) Ferrite)
pins: 1, 2

## BLM15BB220SN1D
designator FB?  Impedance @ Frequency: 22Ω@100MHz
Ferrite, 22Ω@100MHz, ±25%, 200mΩ, 300mA, SMD 0402; Manufacturer: Murata Electronics; Manufacturer Part Number: BLM15BB220SN1D; Package Size: 0402; JLCPCB Basic Part: No; JLCPCB Part Number: C596497; Supplier 1: LCSC; Category: Ferrite Beads; Supplier Part Number 1: C596497; Tolerance: ±25%; Rated Current: 300mA; DC Resistance: 200mΩ; RoHS: Yes; ComponentLink1Description: Datasheet; ComponentLink1URL: https://wmsc.lcsc.com/wmsc/upload/file/pdf/v2/lcsc/2304140030_Murata-Electronics-BLM15BB220SN1D_C596497.pdf; ComponentLink2Description: JLCPCB Part URL; ComponentLink2URL: https://jlcpcb.com/partdetail/C596497; ComponentLink3Description: LCSC Part URL; ComponentLink3URL: https://lcsc.com/product-detail/Ferrite-Beads_Murata-Electronics-Murata-Electronics-BLM15BB220SN1D_C596497.html
footprint FB-0402 (0402 (1005M) Ferrite)
pins: 1, 2